# EAGLE library part ARDUINO_UNO_R3 (library arduino)
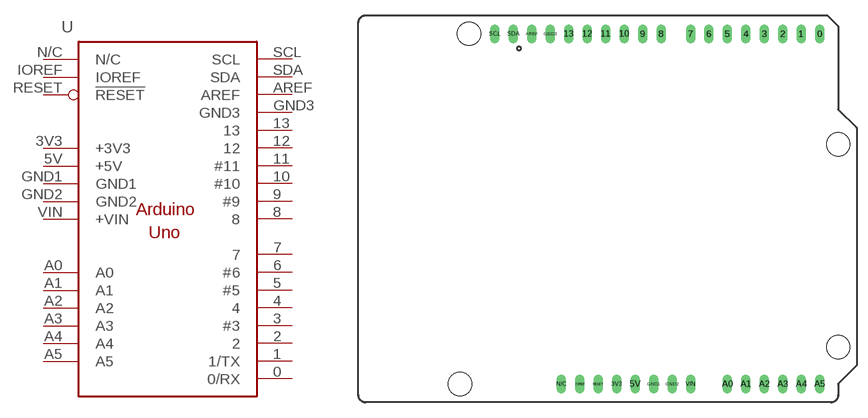
[diagram p6: symbol with the pads of ARDUINO_UNO_R3; footprint ARDUINO_UNO_R3]

Designator prefix -

## ARDUINO_UNO_R3  [ARDUINO_UNO_R3]
0  0/RX
1  1/TX
2  2
3  #3
3V3  +3V3  pwr
4  4
5  #5
5V  +5V  pwr
6  #6
7  7
8  8
9  #9
10  #10
11  #11
12  12
13  13
A0  A0
A1  A1
A2  A2
A3  A3
A4  A4
A5  A5
AREF  AREF
GND1  GND1  pwr
GND2  GND2  pwr
GND3  GND3  pwr
IOREF  IOREF
N/C  N/C  nc
RESET  !RESET
SCL  SCL
SDA  SDA
VIN  +VIN

## Footprint ARDUINO_UNO_R3 (pad centres in mm)
drill 0.8 long: 0 29.21,24.13; 1 26.67,24.13; 2 24.13,24.13; 3 21.59,24.13; 3V3 1.27,-24.13; 4 19.05,24.13; 5 16.51,24.13; 5V 3.81,-24.13; 6 13.97,24.13; 7 11.43,24.13; 8 7.366,24.13; 9 4.826,24.13; 10 2.286,24.13; 11 -0.254,24.13; 12 -2.794,24.13; 13 -5.334,24.13; A0 16.51,-24.13; A1 19.05,-24.13; A2 21.59,-24.13; A3 24.13,-24.13; A4 26.67,-24.13; A5 29.21,-24.13; AREF -10.414,24.13; GND1 6.35,-24.13; GND2 8.89,-24.13; GND3 -7.874,24.13; IOREF -3.81,-24.13; N/C -6.35,-24.13; RESET -1.27,-24.13; SCL -15.494,24.13; SDA -12.954,24.13; VIN 11.43,-24.13
hole 3.2 at 31.75,8.89
hole 3.2 at 31.75,-19.05
hole 3.2 at -19.05,24.13
hole 3.2 at -20.32,-24.13